# Altium footprint library IND_HCTI-220-5.8.PcbLib: 1 footprints
Each footprint in its own frame and in the unit in brackets; x right, y up, seen from the top. Pads: shape width x height; smd on the part's side, far side on the other; paste and mask are expansions set on the pad; w line width, h text height; cw(c..) or ccw(c..) is an arc to the next point about the centre after c.
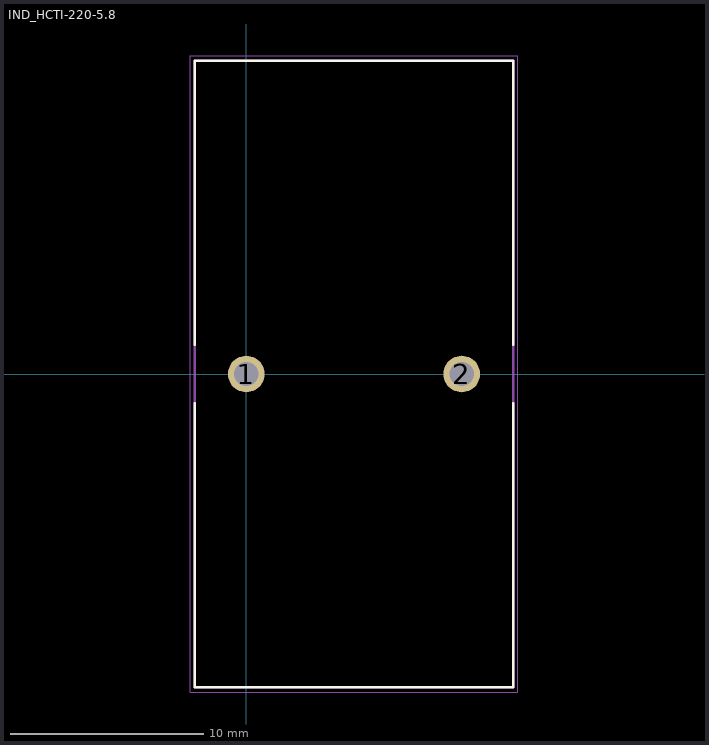
[diagram p0: the footprint, top view; thin cyan lines are the x and y axes]

## IND_HCTI-220-5.8 [mil]
pads (2):
  round 75 hole 50: 1(0,0) 2(440,0)
Top Overlay:
  lines w5: -105,-60 -105,-640 545,-640 545,-60 ; -105,60 -105,640 545,640 545,60
Mechanical 13:
  lines w5: -105,-640 545,-640 545,640 -105,640 -105,-640
Mechanical 15:
  lines w1.97: -114.84,-649.84 554.84,-649.84 554.84,649.84 -114.84,649.84 -114.84,-649.84